# EAGLE library part PIC16F73-I/ML (library RPLidar_interface)
8-bit CMOS FLASH Microcontrollers
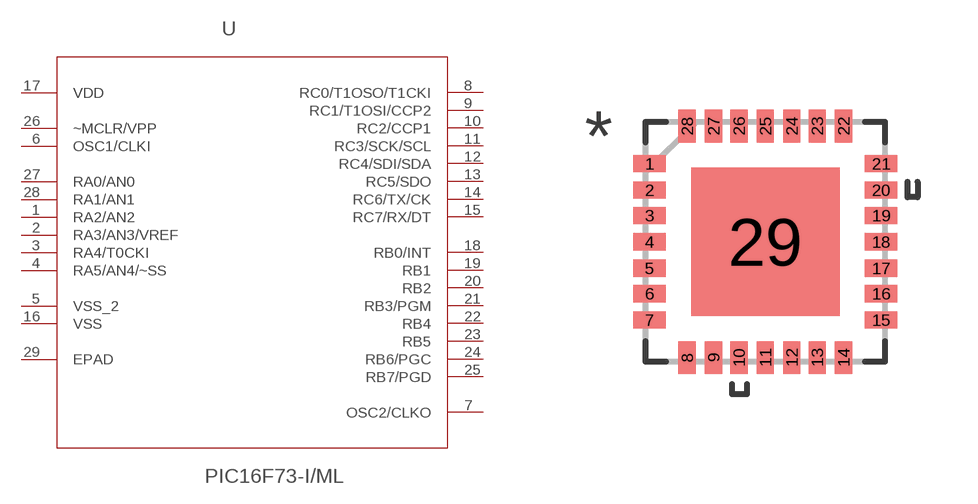
[diagram p1: symbol with the pads of QFN65P600X600X100-28N; footprint QFN65P600X600X100-28N]

Designator prefix -

## PIC16F73-I/ML (DESCRIPTION: 8-bit CMOS FLASH Microcontrollers; MPN: PIC16F73-I/ML; OC_FARNELL: 1084327; OC_NEWARK: 97K7368; PACKAGE: QFN-28; SUPPLIER: Microchip)  [QFN65P600X600X100-28N]
1  RA2/AN2
2  RA3/AN3/VREF
3  RA4/T0CKI
4  RA5/AN4/~SS
5  VSS_2  pwr
6  OSC1/CLKI  in
7  OSC2/CLKO  out
8  RC0/T1OSO/T1CKI
9  RC1/T1OSI/CCP2
10  RC2/CCP1
11  RC3/SCK/SCL
12  RC4/SDI/SDA
13  RC5/SDO
14  RC6/TX/CK
15  RC7/RX/DT
16  VSS  pwr
17  VDD  pwr
18  RB0/INT
19  RB1
20  RB2
21  RB3/PGM
22  RB4
23  RB5
24  RB6/PGC
25  RB7/PGD
26  ~MCLR/VPP  in
27  RA0/AN0
28  RA1/AN1
29  EPAD  pas

## Footprint QFN65P600X600X100-28N (pad centres in mm)
smd 0.813 x 0.432: 1 -2.896,1.956; 2 -2.896,1.295; 3 -2.896,0.66; 4 -2.896,0; 5 -2.896,-0.66; 6 -2.896,-1.295; 7 -2.896,-1.956; 15 2.896,-1.956; 16 2.896,-1.295; 17 2.896,-0.66; 18 2.896,0; 19 2.896,0.66; 20 2.896,1.295; 21 2.896,1.956
smd 0.432 x 0.813: 8 -1.956,-2.896; 9 -1.295,-2.896; 10 -0.66,-2.896; 11 0,-2.896; 12 0.66,-2.896; 13 1.295,-2.896; 14 1.956,-2.896; 22 1.956,2.896; 23 1.295,2.896; 24 0.66,2.896; 25 0,2.896; 26 -0.66,2.896; 27 -1.295,2.896; 28 -1.956,2.896
smd 3.708 x 3.708: 29 0,0